# Altium footprint library MK 4159.48-1.PcbLib: 1 footprints
Each footprint in its own frame and in the unit in brackets; x right, y up, seen from the top. Pads: shape width x height; smd on the part's side, far side on the other; paste and mask are expansions set on the pad; w line width, h text height; cw(c..) or ccw(c..) is an arc to the next point about the centre after c.
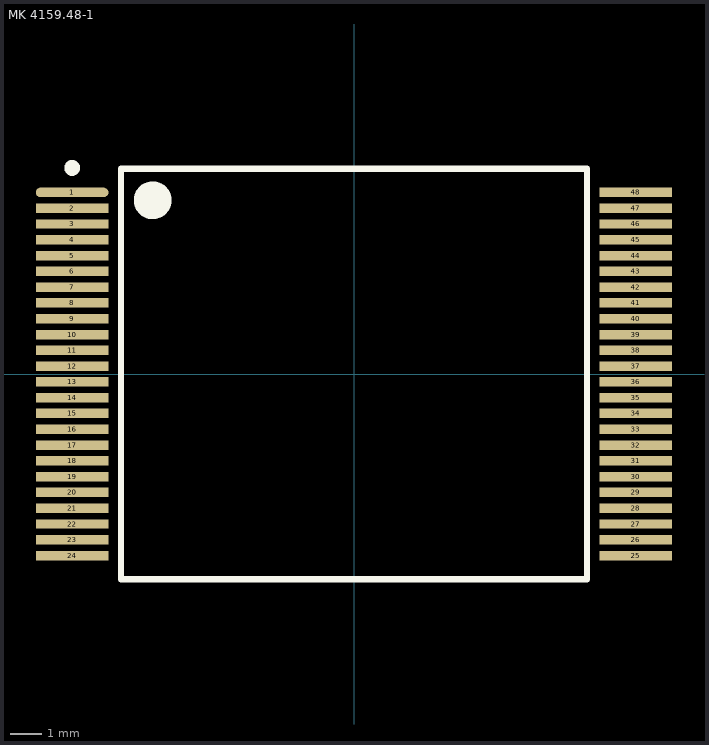
[diagram p0: the footprint, top view; thin cyan lines are the x and y axes]

## MK 4159.48-1 [mm] "CFP, 48-Leads, Body 13,00x14,00mm (max), Pitch 0,50mm, IPC Medium Density"
height 3
pads (48):
  oval 2.3x0.3 smd mask+0.102: 1(-8.925,5.75)
  rect 2.3x0.3 smd mask+0.102: 2(-8.925,5.25) 3(-8.925,4.75) 4(-8.925,4.25) 5(-8.925,3.75) 6(-8.925,3.25) 7(-8.925,2.75) 8(-8.925,2.25) 9(-8.925,1.75) 10(-8.925,1.25) 11(-8.925,0.75) 12(-8.925,0.25) 13(-8.925,-0.25) 14(-8.925,-0.75) 15(-8.925,-1.25) 16(-8.925,-1.75) 17(-8.925,-2.25) 18(-8.925,-2.75) 19(-8.925,-3.25) 20(-8.925,-3.75) 21(-8.925,-4.25) 22(-8.925,-4.75) 23(-8.925,-5.25) 24(-8.925,-5.75) 25(8.925,-5.75) 26(8.925,-5.25) 27(8.925,-4.75) 28(8.925,-4.25) 29(8.925,-3.75) 30(8.925,-3.25) 31(8.925,-2.75) 32(8.925,-2.25) 33(8.925,-1.75) 34(8.925,-1.25) 35(8.925,-0.75) 36(8.925,-0.25) 37(8.925,0.25) 38(8.925,0.75) 39(8.925,1.25) 40(8.925,1.75) 41(8.925,2.25) 42(8.925,2.75) 43(8.925,3.25) 44(8.925,3.75) 45(8.925,4.25) 46(8.925,4.75) 47(8.925,5.25) 48(8.925,5.75)
Top Overlay:
  circle w0.6: c-6.375,5.5 r0.3
  circle w0.25: c-8.925,6.525 r0.125
  lines w0.2: -7.375,-6.5 -7.375,6.5 7.375,6.5 7.375,-6.5 -7.375,-6.5
3D body "MK 4159.48-1.step": height 2.5, standoff 0, extent -9.68,-6.5 9.68,6.5